# Altium schematic symbol library BV302S12023.SchLib: 2 symbols
Pins are listed as number, name and electrical type; pins without a type are passive.

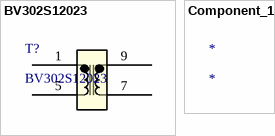
[diagram p0: symbols BV302S12023 to Component_1]

## BV302S12023
designator T?
No Description Available; Manufacturer_Name: Zettler Magnetics; Type: Power Transformers; Copyright: Copyright (C) 2025 Ultra Librarian. All rights reserved.; Manufacturer_Part_Number: BV302S12023; RefDes: RefDes
footprint BV302S12023_ZLM
pins: 1, 5, 7, 9

## Component_1
designator *